# Altium schematic symbol library VoltageSources.SchLib: 3 symbols
Pins are listed as number, name and electrical type; pins without a type are passive.

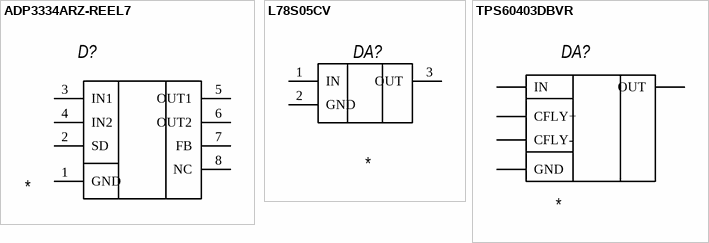
[diagram p0: symbols ADP3334ARZ-REEL7 to TPS60403DBVR]

## ADP3334ARZ-REEL7
designator D?
pins: 1 GND, 2 SD, 3 IN1, 4 IN2, 5 OUT1, 6 OUT2, 7 FB, 8 NC

## L78S05CV
designator DA?
pins: 1 IN, 2 GND, 3 OUT

## TPS60403DBVR
designator DA?
pins: 1 OUT, 2 IN, 3 CFLY-, 4 GND, 5 CFLY+